# Altium schematic symbol library ОУ - обозначение.SchLib: 1 symbol
Pins are listed as number, name and electrical type; pins without a type are passive.

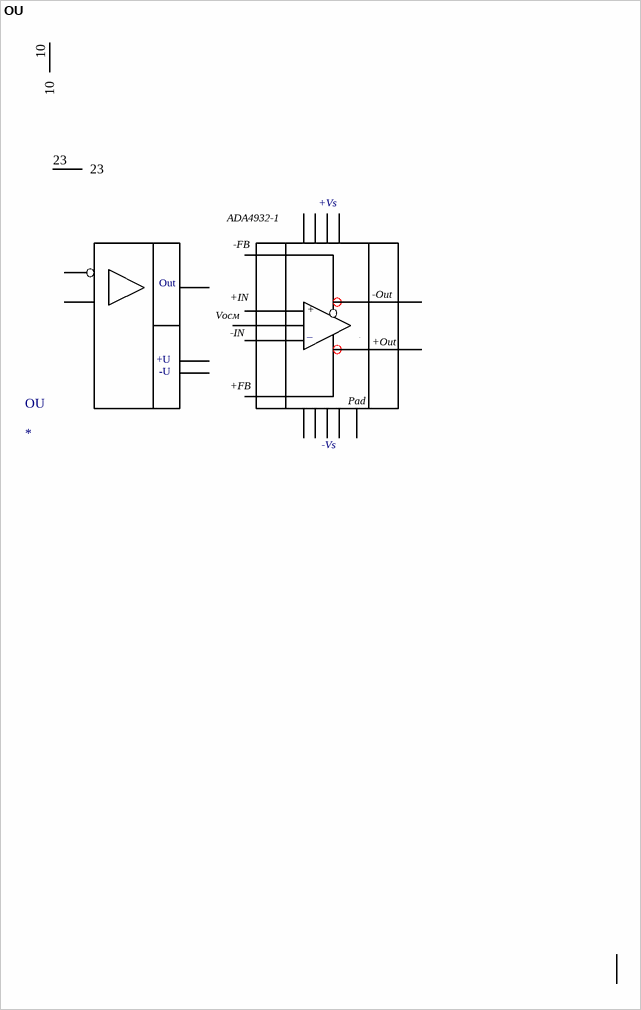
[diagram p0: symbol OU]

## OU
designator OU
pins: 6 ~{6}, 7, 8, 9, 9, 10, 11, 12, 15, 16, 17, 18, 19, 20, 21, 22, 23, 24, 25, 26, 27, 28, 28, 28, 28, 28, 28
text: +Vs; ADA4932-1; -FB; Out; -Out; +IN; +; Vосм; -IN; _; +Out; +U; -U; +FB; Pad; -Vs